# EAGLE library part TEN3-2410N (library TEN3)
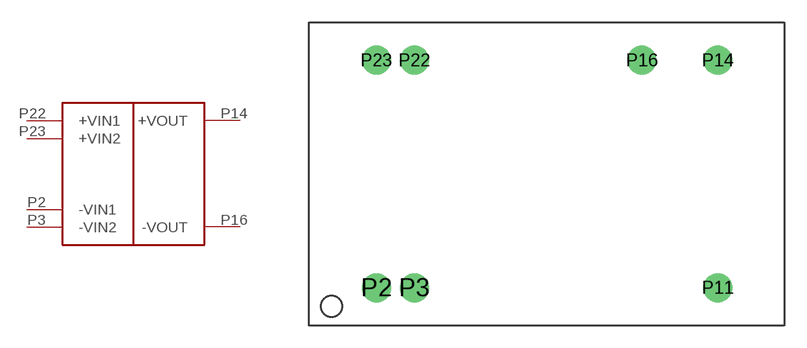
[diagram p0: symbol with the pads of TEN3-2410N; footprint TEN3-2410N]

Designator prefix -

## TEN3-2410N (OC_RS: 801-9330)  [TEN3-2410N]
P2  -VIN1  pas
P3  -VIN2  pas
P14  +VOUT  pas
P16  -VOUT  pas
P22  +VIN1  pwr
P23  +VIN2  pwr

## Footprint TEN3-2410N (pad centres in mm)
drill 0.7 pad 1.93: P2 0,-15.24; P3 2.54,-15.24; P11 22.86,-15.24; P14 22.86,0; P16 17.78,0; P22 2.54,0; P23 0,0